# Altium footprint library Diodes.PcbLib: 15 footprints
Each footprint in its own frame and in the unit in brackets; x right, y up, seen from the top. Pads: shape width x height; smd on the part's side, far side on the other; paste and mask are expansions set on the pad; w line width, h text height; cw(c..) or ccw(c..) is an arc to the next point about the centre after c.
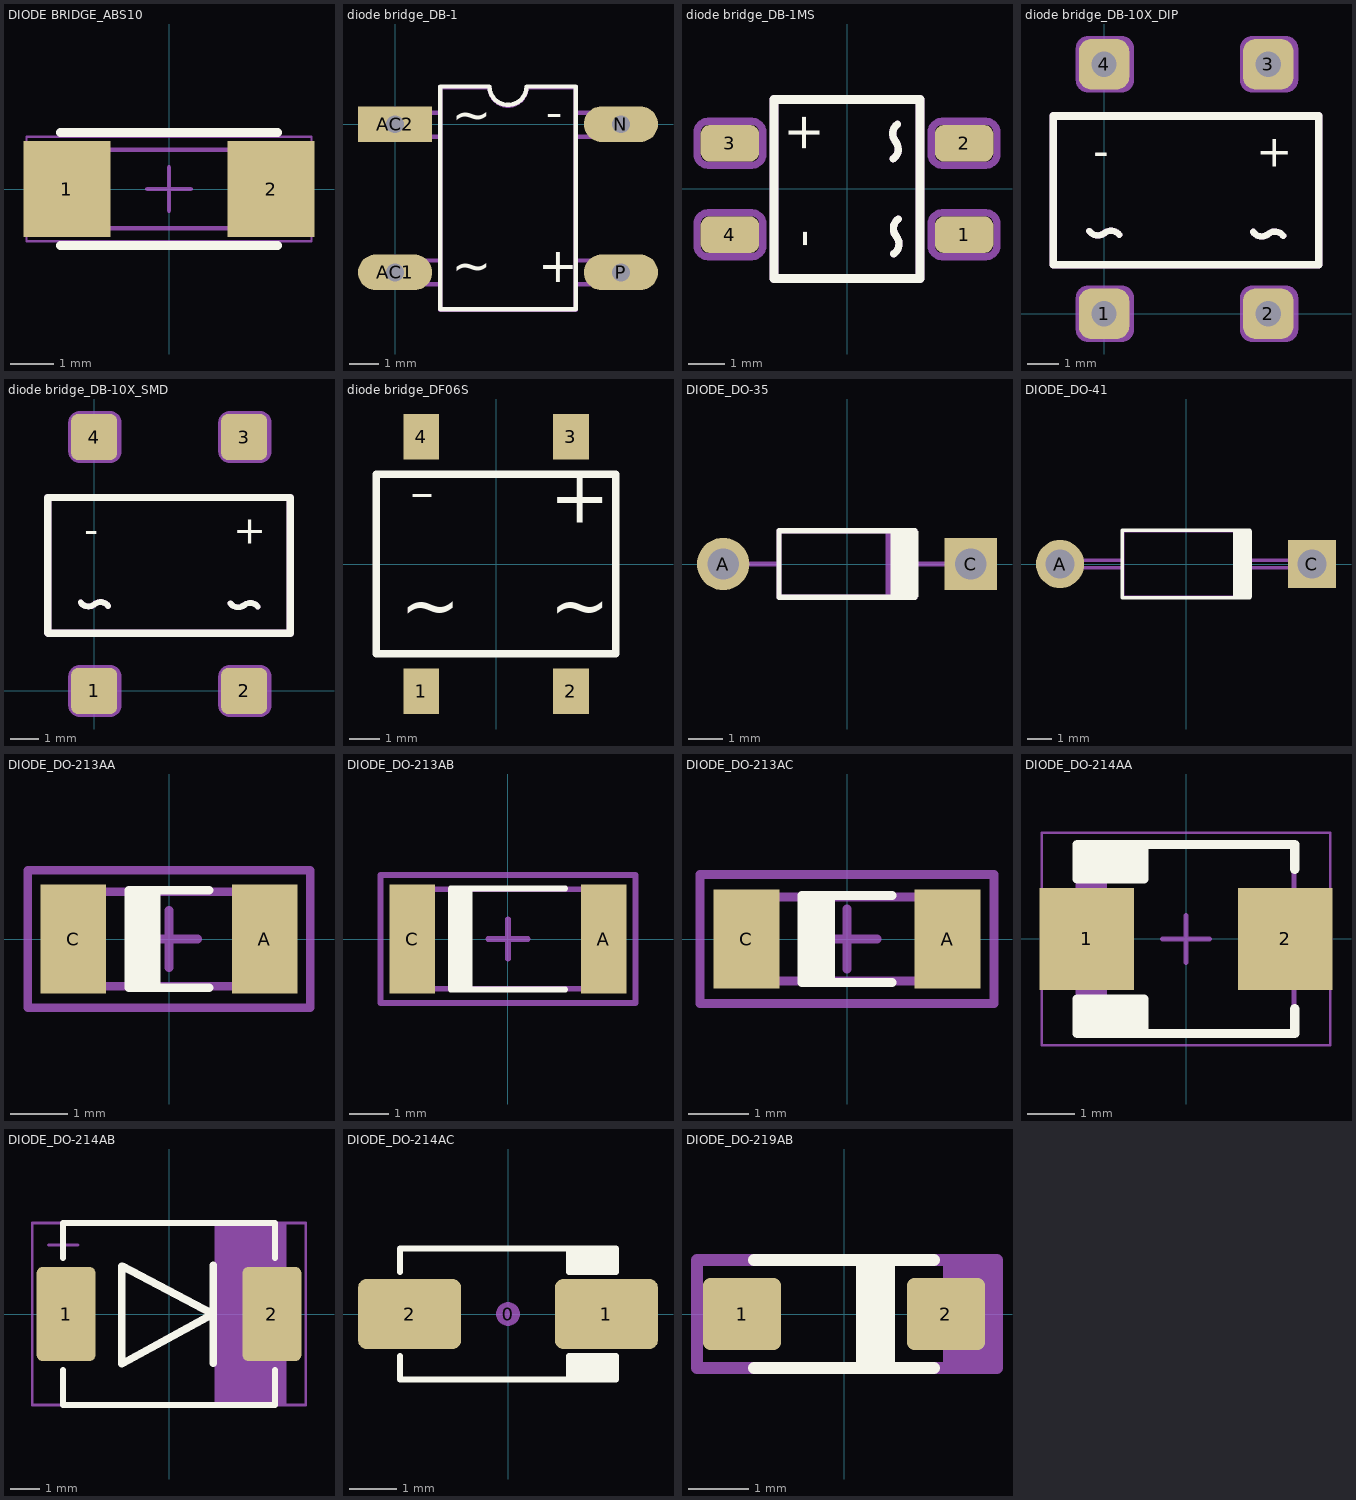
[diagram p0: the footprints below, top view; thin cyan lines are the x and y axes]

## DIODE BRIDGE_ABS10 [mm] "Molded Capacitor, 2-Leads, Body 4,90x1,80mm, IPC Medium Density"
height 1
pads (2):
  rect 2x2.2 smd: 1(-2.35,0) 2(2.35,0)
Top Overlay:
  lines w0.2: -2.5,-1.3 2.5,-1.3 ; -2.5,1.3 2.5,1.3
Mechanical 13:
  lines w0.1: -2.45,-0.9 2.45,-0.9 2.45,0.9 -2.45,0.9 -2.45,-0.9
Mechanical 15:
  lines w0.05: -3.275,-1.2 3.275,-1.2 3.275,1.2 -3.275,1.2 -3.275,-1.2
  lines w0.1: -0.5,0 0.5,0 ; 0,-0.5 0,0.5
3D body "User Library-ASB 10.step": height 1, standoff 0, extent -2.45,-0.9 2.45,0.9

## diode bridge_DB-1 [mm]
pads (4):
  oval 2.5x1.2 hole 0.6: AC1(0,-5) N(7.62,0) P(7.62,-5)
  rect 2.5x1.2 hole 0.6: AC2(0,0)
Top Overlay:
  lines w0.15: 1.524,-6.25 1.524,1.27 3.185,1.27 ccw(c3.81,1.27) 4.435,1.27 6.096,1.27 6.096,-6.25 1.524,-6.25
  text "-" at 5.08,-0.508 h2
  text "+" at 4.826,-5.715 h2
  text "~" at 1.905,-5.715 h2
  text "~" at 1.905,-0.635 h2
Mechanical 29:
  lines w0.15: 1.525,-5.4 -0.628,-5.4 -0.628,-4.6 1.525,-4.6 ; 1.525,-0.42 -0.628,-0.42 -0.628,0.38 1.525,0.38 ; 6.097,-5.4 8.25,-5.4 8.25,-4.6 6.097,-4.6 ; 6.097,-0.42 8.25,-0.42 8.25,0.38 6.097,0.38 ; 1.525,-6.27 1.525,1.25 3.186,1.25 ccw(c3.811,1.25) 4.436,1.25 6.097,1.25 6.097,-6.27 1.525,-6.27
  text "-" at 5.081,-0.528 h2
  text "+" at 4.827,-5.735 h2
  text "~" at 1.906,-5.735 h2
  text "~" at 1.906,-0.655 h2
3D body "User Library-Silicon Bridge Rectifiers DF10.step": height 3.55, standoff -3.26, extent -0.15,-6.604 7.77,1.596

## diode bridge_DB-1MS [mm]
pads (4):
  rrect50% 1.6x1 smd: 1(3.2,-1.25) 2(3.2,1.25) 3(-3.2,1.25) 4(-3.2,-1.25)
Top Overlay:
  lines w0.2: 1.258,0.823 ccw(c1.084,1.089) 1.33,1.29 ; 1.278,-1.767 ccw(c1.104,-1.501) 1.35,-1.3 ; 1.335,1.295 cw(c1.566,1.512) 1.382,1.771 ; 1.355,-1.295 cw(c1.586,-1.078) 1.402,-0.819
  lines w0.25: -2,-2.45 2,-2.45 2,2.45 -2,2.45 -2,-2.45
  text "+" at -0.75,0.97 h1
  text "-" at -0.77,-1.6 h1
Mechanical 8:
  lines w0.2: -4.1,-1.6 -4.1,-0.95 ; -4.1,-1.545 ccw(c-3.795,-1.545) -3.795,-1.85 -2.6,-1.85 ; -4.1,-0.955 cw(c-3.795,-0.955) -3.795,-0.65 -2.6,-0.65 ; -4.1,0.9 -4.1,1.55 ; -4.1,0.955 ccw(c-3.795,0.955) -3.795,0.65 -2.6,0.65 ; -4.1,1.545 cw(c-3.795,1.545) -3.795,1.85 -2.6,1.85 ; -2.605,-1.85 ccw(c-2.605,-1.545) -2.3,-1.545 -2.3,-0.955 ; -2.605,0.65 ccw(c-2.605,0.955) -2.3,0.955 -2.3,1.545 ; 1.258,0.823 ccw(c1.084,1.089) 1.33,1.29 ; 1.278,-1.767 ccw(c1.104,-1.501) 1.35,-1.3 ; 1.335,1.295 cw(c1.566,1.512) 1.382,1.771 ; 1.355,-1.295 cw(c1.586,-1.078) 1.402,-0.819 ; 2.3,-1.6 2.3,-0.95 ; 2.3,-1.545 ccw(c2.605,-1.545) 2.605,-1.85 3.8,-1.85 ; 2.3,-0.955 cw(c2.605,-0.955) 2.605,-0.65 3.8,-0.65 ; 2.3,0.9 2.3,1.55 ; 2.3,0.955 ccw(c2.605,0.955) 2.605,0.65 3.8,0.65 ; 2.3,1.545 cw(c2.605,1.545) 2.605,1.85 3.8,1.85 ; 3.795,-1.85 ccw(c3.795,-1.545) 4.1,-1.545 4.1,-0.955 ; 3.795,0.65 ccw(c3.795,0.955) 4.1,0.955 4.1,1.545 ; -2.3,-0.955 ccw(c-2.605,-0.955) -2.605,-0.65 cw(c-2.605,-0.955) -2.3,-0.955 ; -2.3,1.545 ccw(c-2.605,1.545) -2.605,1.85 cw(c-2.605,1.545) -2.3,1.545 ; 4.1,-0.955 ccw(c3.795,-0.955) 3.795,-0.65 cw(c3.795,-0.955) 4.1,-0.955 ; 4.1,1.545 ccw(c3.795,1.545) 3.795,1.85 cw(c3.795,1.545) 4.1,1.545
  lines w0.25: -2,-2.45 -2,2.45 2,2.45 2,-2.45 -2,-2.45
  text "-" at -0.77,-1.6 h1
  text "+" at -0.75,0.97 h1
  text ".Designator" at 0.5,-2.05 h1.8
3D body "DB-1MS.stp": height 2.7, standoff 0, extent -3.5,-2.45 3.5,2.45

## diode bridge_DB-10X_DIP [mm]
pads (4):
  rrect50% 1.6x1.6 hole 0.8: 1(0,0) 2(5.2,0) 3(5.2,7.9) 4(0,7.9)
Top Overlay:
  lines w0.2: -0.467,2.622 ccw(c-0.201,2.796) 0,2.55 ; 0.005,2.545 cw(c0.222,2.314) 0.481,2.498 ; 4.723,2.592 ccw(c4.989,2.766) 5.19,2.52 ; 5.195,2.515 cw(c5.412,2.284) 5.671,2.468
  lines w0.25: -1.61,1.56 -1.6,1.55 6.8,1.55 6.8,6.26 -1.61,6.26 -1.61,1.56
  text "+" at 4.82,4.65 h1
  text "-" at -0.35,4.67 h1
Mechanical 8:
  lines w0.2: -0.467,2.622 ccw(c-0.201,2.796) 0,2.55 ; 0.005,2.545 cw(c0.222,2.314) 0.481,2.498 ; 4.723,2.592 ccw(c4.989,2.766) 5.19,2.52 ; 5.195,2.515 cw(c5.412,2.284) 5.671,2.468 ; -0.8,-0.495 ccw(c-0.495,-0.495) -0.495,-0.8 0.545,-0.8 ccw(c0.545,-0.495) 0.85,-0.495 0.85,0.495 ccw(c0.545,0.495) 0.545,0.8 0,0.8 -0.495,0.8 ccw(c-0.495,0.495) -0.8,0.495 -0.8,-0.495 ; -0.8,7.405 ccw(c-0.495,7.405) -0.495,7.1 0.545,7.1 ccw(c0.545,7.405) 0.85,7.405 0.85,8.395 ccw(c0.545,8.395) 0.545,8.7 0,8.7 -0.495,8.7 ccw(c-0.495,8.395) -0.8,8.395 -0.8,7.405 ; 4.4,-0.495 ccw(c4.705,-0.495) 4.705,-0.8 5.745,-0.8 ccw(c5.745,-0.495) 6.05,-0.495 6.05,0.495 ccw(c5.745,0.495) 5.745,0.8 5.2,0.8 4.705,0.8 ccw(c4.705,0.495) 4.4,0.495 4.4,-0.495 ; 4.4,7.405 ccw(c4.705,7.405) 4.705,7.1 5.745,7.1 ccw(c5.745,7.405) 6.05,7.405 6.05,8.395 ccw(c5.745,8.395) 5.745,8.7 5.2,8.7 4.705,8.7 ccw(c4.705,8.395) 4.4,8.395 4.4,7.405
  lines w0.25: -1.61,1.56 -1.61,6.26 6.8,6.26 6.8,1.55 -1.6,1.55
  text ".Designator" at 0.05,3.2 h2.5
  text "+" at 4.82,4.65 h1
  text "-" at -0.35,4.67 h1
3D body "DF01.step": height 3.65, standoff -3.16, extent -1.5,-0.02 6.7,7.9

## diode bridge_DB-10X_SMD [mm]
pads (4):
  rrect30% 1.6x1.6 smd: 1(0,0) 2(5.2,0) 3(5.2,8.8) 4(0,8.8)
Top Overlay:
  lines w0.2: -0.467,3.072 ccw(c-0.201,3.246) 0,3 ; 0.005,2.995 cw(c0.222,2.764) 0.481,2.948 ; 4.723,3.042 ccw(c4.989,3.216) 5.19,2.97 ; 5.195,2.965 cw(c5.412,2.734) 5.671,2.918
  lines w0.25: -1.61,2.01 -1.61,6.71 6.8,6.71 6.8,2 -1.6,2
  text "-" at -0.35,5.12 h1
  text "+" at 4.82,5.1 h1
Mechanical 8:
  lines w0.2: -0.467,3.072 ccw(c-0.201,3.246) 0,3 ; 0.005,2.995 cw(c0.222,2.764) 0.481,2.948 ; 4.723,3.042 ccw(c4.989,3.216) 5.19,2.97 ; 5.195,2.965 cw(c5.412,2.734) 5.671,2.918 ; -0.8,-0.495 ccw(c-0.495,-0.495) -0.495,-0.8 0.545,-0.8 ccw(c0.545,-0.495) 0.85,-0.495 0.85,0.495 ccw(c0.545,0.495) 0.545,0.8 0,0.8 -0.495,0.8 ccw(c-0.495,0.495) -0.8,0.495 -0.8,-0.495 ; -0.8,8.305 ccw(c-0.495,8.305) -0.495,8 0.545,8 ccw(c0.545,8.305) 0.85,8.305 0.85,9.295 ccw(c0.545,9.295) 0.545,9.6 0,9.6 -0.495,9.6 ccw(c-0.495,9.295) -0.8,9.295 -0.8,8.305 ; 4.4,-0.495 ccw(c4.705,-0.495) 4.705,-0.8 5.745,-0.8 ccw(c5.745,-0.495) 6.05,-0.495 6.05,0.495 ccw(c5.745,0.495) 5.745,0.8 5.2,0.8 4.705,0.8 ccw(c4.705,0.495) 4.4,0.495 4.4,-0.495 ; 4.4,8.305 ccw(c4.705,8.305) 4.705,8 5.745,8 ccw(c5.745,8.305) 6.05,8.305 6.05,9.295 ccw(c5.745,9.295) 5.745,9.6 5.2,9.6 4.705,9.6 ccw(c4.705,9.295) 4.4,9.295 4.4,8.305
  lines w0.25: -1.61,2.01 -1.61,6.71 6.8,6.71 6.8,2 -1.6,2
  text "+" at 4.82,5.1 h1
  text "-" at -0.35,5.12 h1
  text ".Designator" at 0.05,3.65 h2
3D body "DB-10S.step": height 3.63, standoff 0, extent -1.65,-0.6 6.85,9.4

## diode bridge_DF06S [mm]
pads (4):
  rect 1.2x1.524 smd: 1(-2.5,-4.25) 2(2.5,-4.25) 3(2.5,4.25) 4(-2.5,4.25)
Top Overlay:
  lines w0.254: -4,-3 4,-3 4,3 -4,3 -4,-3
  text "~" at -3.2,-2.8 h3
  text "~" at 1.8,-2.8 h3
  text "+" at 1.8,0.8 h3
  text "-" at -2.9,1.1 h3
3D body "User Library-DF02S.step": height 2.69, standoff -0.02, extent -4.065,-4.7 4.065,4.7

## DIODE_DO-35 [mm] "Diode, Axial; Body 3.8 x 1.9 mm (LxDia. max), Lead Dia. 0.53 mm (max)"
height 1.9
pads (2):
  round 1.5 hole 0.9: A(-3.55,0)
  rect 1.5x1.5 hole 0.9: C(3.55,0)
Top Overlay:
  rectangle: 1.25,-0.95 2.05,0.95
  lines w0.15: 1.95,-0.95 -1.95,-0.95 -1.95,0.95 1.95,0.95
  text "." at 2.35,-0.8 h0.1
Mechanical 29:
  rectangle: 1.1,-0.95 1.95,0.95
  lines w0.15: -3.55,0 -1.95,0 ; 1.95,0 3.55,0 ; -1.95,-0.95 1.95,-0.95 1.95,0.95 -1.95,0.95 -1.95,-0.95
3D body "DO-35.STEP": height 2.06, standoff -2.35, extent -3.805,-0.96 3.855,0.96

## DIODE_DO-41 [mm] "Diode, Axial; Body 5.2 x 2.7 mm (LxDia. max), Lead Dia. 0.86 mm (max)"
height 2.8
pads (2):
  round 2 hole 1.2: A(-5.23,0)
  rect 2x2 hole 1.2: C(5.23,0)
Top Overlay:
  rectangle: 1.95,-1.4 2.75,1.4
  lines w0.15: 2.65,-1.4 -2.65,-1.4 -2.65,1.4 2.65,1.4
  text "." at 3.45,-1.1 h0.1
Mechanical 29:
  rectangle: 1.975,-1.375 2.625,1.375
  lines w0.15: -2.675,-0.15 -5.23,-0.15 -5.23,0 -5.23,0.15 -2.675,0.15 ; 2.675,-0.15 5.23,-0.15 5.23,0 5.23,0.15 2.675,0.15 ; -2.625,-1.375 2.625,-1.375 2.625,1.375 -2.625,1.375 -2.625,-1.375
3D body "DO-41.STEP": height 2.76, standoff -2.45, extent -5.68,-1.31 5.68,1.41

## DIODE_DO-213AA [mm] "MELF Diode, 2-Leads, Body 3,50x1,65mm, IPC Medium Density"
height 1.65
pads (2):
  rect 1.15x1.9 smd: A(1.675,0) C(-1.675,0)
Top Overlay:
  rectangle: -0.7,-0.85 -0.15,0.85
  lines w0.15: 0.7,-0.85 -0.7,-0.85 -0.7,0.85 0.7,0.85
  text "." at -2.35,1.3 h0.1
Mechanical 15:
  lines w0.15: -0.5,0 0.5,0 ; 0,-0.5 0,0.5 ; -2.475,-1.2 -2.475,1.2 2.475,1.2 2.475,-1.2 -2.475,-1.2
Mechanical 29:
  rectangle: -1.75,-0.825 -1.1,0.825
  lines w0.15: -1.75,-0.825 -1.75,0.825 1.75,0.825 1.75,-0.825 -1.75,-0.825
3D body "DO-213AA.step": height 1.65, standoff 0.01, extent -1.75,-0.823 1.75,0.823

## DIODE_DO-213AB [mm] "MELF Diode, 2-Leads, Body 5,00x2,52mm, IPC Medium Density"
height 2.52
pads (2):
  rect 1.15x2.75 smd: A(2.425,0) C(-2.425,0)
Top Overlay:
  rectangle: -1.45,-1.275 -0.9,1.275
  lines w0.15: 1.45,-1.275 -1.45,-1.275 -1.45,1.275 1.45,1.275
  text "." at -3.35,1.55 h0.1
Mechanical 15:
  lines w0.15: -0.5,0 0.5,0 ; 0,-0.5 0,0.5 ; -3.225,-1.625 -3.225,1.625 3.225,1.625 3.225,-1.625 -3.225,-1.625
Mechanical 29:
  rectangle: -2.5,-1.26 -2,1.26
  lines w0.15: -2.5,-1.26 -2.5,1.26 2.5,1.26 2.5,-1.26 -2.5,-1.26
3D body "DO-213AB.step": height 1.4, standoff 0.01, extent -1.725,-0.699 1.725,0.699

## DIODE_DO-213AC [mm] "MELF Diode, 2-Leads, Body 3,45x1,40mm, IPC Medium Density"
height 1.4
pads (2):
  rect 1.1x1.65 smd: A(1.675,0) C(-1.675,0)
Top Overlay:
  rectangle: -0.75,-0.725 -0.2,0.725
  lines w0.15: 0.75,-0.725 -0.75,-0.725 -0.75,0.725 0.75,0.725
  text "." at -2.6,1.3 h0.1
Mechanical 15:
  lines w0.15: -0.5,0 0.5,0 ; 0,-0.5 0,0.5 ; -2.45,-1.075 2.45,-1.075 2.45,1.075 -2.45,1.075 -2.45,-1.075
Mechanical 29:
  rectangle: -1.725,-0.7 -1.3,0.7
  lines w0.15: -1.725,-0.7 1.725,-0.7 1.725,0.7 -1.725,0.7 -1.725,-0.7
3D body "DO-213AC.step": height 1.4, standoff 0.01, extent -1.725,-0.699 1.725,0.699

## DIODE_DO-214AA [mm] "Molded Diode, 2-Leads, Body 4,31x3,62mm, IPC Medium Density"
height 2.62
pads (2):
  rect 2x2.15 smd: 1(-2.1,0) 2(2.1,0)
Top Overlay:
  rectangle: -2.3,1.27 -0.889,2
  rectangle: -2.3,-2.032 -0.889,-1.27
  lines w0.2: -0.889,-1.905 -0.889,-1.27 -2.3,-1.27 -2.3,-2 2.3,-2 2.3,-1.475 ; -0.889,2 -0.889,1.27 -2.3,1.27 -2.3,2 2.3,2 2.3,1.475
Mechanical 13:
  rectangle: -2.285,-1.97 -1.67,1.97
  lines w0.1: -2.285,-1.97 -2.285,1.97 2.285,1.97 2.285,-1.97 -2.285,-1.97
Mechanical 15:
  lines w0.05: -3.05,-2.25 -3.05,2.25 3.05,2.25 3.05,-2.25 -3.05,-2.25
  lines w0.1: -0.5,0 0.5,0 ; 0,-0.5 0,0.5
3D body "User Library-DIOM5539X24.step": height 2.45, standoff 0.03, extent -2.75,-1.95 2.75,1.95

## DIODE_DO-214AB [mm]
pads (2):
  rrect20% 2x3.2 smd: 1(-3.5,0) 2(3.5,0)
Top Overlay:
  lines w0.2: -3.6,-1.9 -3.6,-3.1 3.6,-3.1 3.6,-1.9 ; -3.6,1.9 -3.6,3.1 3.6,3.1 3.6,1.9
  lines w0.254: 1.5,-1.67 1.5,0 ; 1.5,1.66 1.5,0 ; 1.5,0 -1.6,-1.69 -1.6,1.63 1.5,0
Mechanical 8:
  rectangle: 1.55,-3.1 4,3.1
  lines w0.1: -4.1,2.35 -3.1,2.35 ; -3.6,1.85 -3.6,2.85 ; -4.65,-3.1 4.65,-3.1 4.65,3.1 -4.65,3.1 -4.65,-3.1
  text ".Designator" at -4.2,-0.6 h2.5
3D body "DO-214AB SMC.step": height 2.15, standoff -0.16, extent -3.975,-2.95 3.975,2.95

## DIODE_DO-214AC [mm] "JEDEC DO214 variation AC. SMA"
height 2.5
pads (3):
  round 0.508 on Mech15: 0(0,0)
  rrect25% 2.2x1.5 smd: 1(2.1,0) 2(-2.1,0)
Top Overlay:
  rectangle: 1.3,0.9 2.3,1.4
  rectangle: 1.3,-1.4 2.3,-0.9
  lines w0.127: -2.3,-0.9 -2.3,-1.4 2.3,-1.4 2.3,-0.9 1.3,-0.9 1.3,-1.4 ; -2.3,0.9 -2.3,1.4 2.3,1.4 2.3,0.9 1.3,0.9 ; 1.3,0.911 1.3,1.4
3D body "SW3dPS-DO-214AC SMA.STEP": height 2.42, standoff 0.02, extent -2.6,-1.3 2.6,1.3

## DIODE_DO-219AB [mm]
pads (2):
  rrect20% 1.3x1.2 smd: 1(-1.7,0) 2(1.7,0)
Top Overlay:
  lines w0.2: -1.5,-0.9 1.5,-0.9 ; -1.5,0.9 1.5,0.9 ; 0.3,-0.9 0.3,0.9 ; 0.45,-0.9 0.45,0.9 ; 0.55,-0.9 0.55,0.9 ; 0.65,-0.9 0.65,0.9 ; 0.75,-0.9 0.75,0.9
Mechanical 8:
  rectangle: 1.65,-0.9 2.55,0.9
  lines w0.2: -2.45,-0.9 2.55,-0.9 2.55,0.9 -2.45,0.9 -2.45,-0.9
  text ".Designator" at -2.1,-0.5 h2
3D body "DO-219AB SMF.STEP": height 1.25, standoff 0, extent -1.95,-0.95 1.95,0.95